# Altium footprint library CAP_TH_CER_0_1IN.PcbLib: 1 footprints
Each footprint in its own frame and in the unit in brackets; x right, y up, seen from the top. Pads: shape width x height; smd on the part's side, far side on the other; paste and mask are expansions set on the pad; w line width, h text height; cw(c..) or ccw(c..) is an arc to the next point about the centre after c.
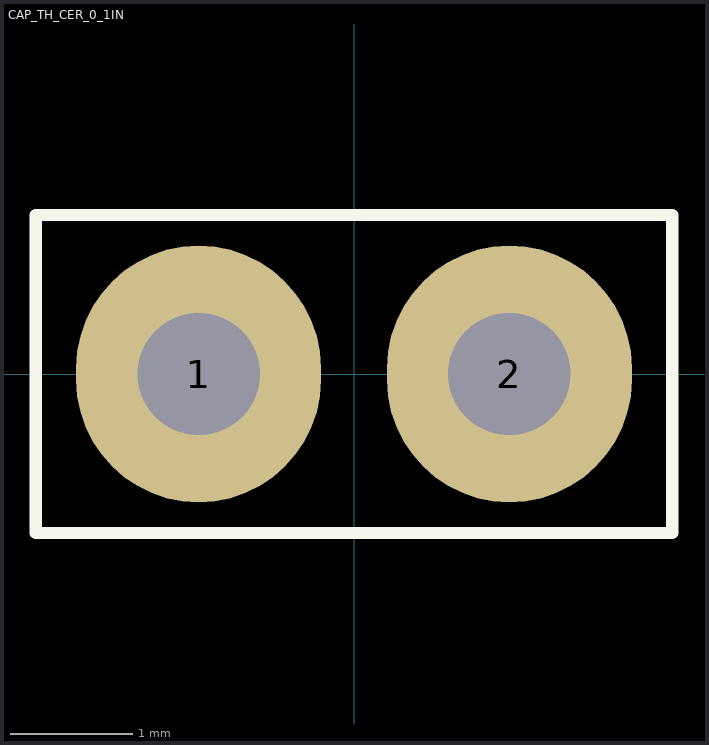
[diagram p0: the footprint, top view; thin cyan lines are the x and y axes]

## CAP_TH_CER_0_1IN [mm] "Radial Cap, Thru-Hole; 2 Leads; 0.1 in Pin Spacing"
height 3.5
pads (2):
  oval 2x2.1 hole 1: 1(-1.27,0) 2(1.27,0)
Top Overlay:
  lines w0.1: -2.6,-1.3 2.6,-1.3 2.6,1.3 -2.6,1.3 -2.6,-1.3